# Altium schematic symbol library A5839.SchLib: 1 symbol
Pins are listed as number, name and electrical type; pins without a type are passive.

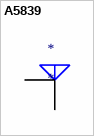
[diagram p0: symbol A5839]

## A5839
designator *
pins: 1 FEED, 2 GND